# Altium footprint library TI Interface ESD EMI Protection.PcbLib: 54 footprints (part 4 of 4)
Each footprint in its own frame and in the unit in brackets; x right, y up, seen from the top. Pads: shape width x height; smd on the part's side, far side on the other; paste and mask are expansions set on the pad; w line width, h text height; cw(c..) or ccw(c..) is an arc to the next point about the centre after c.
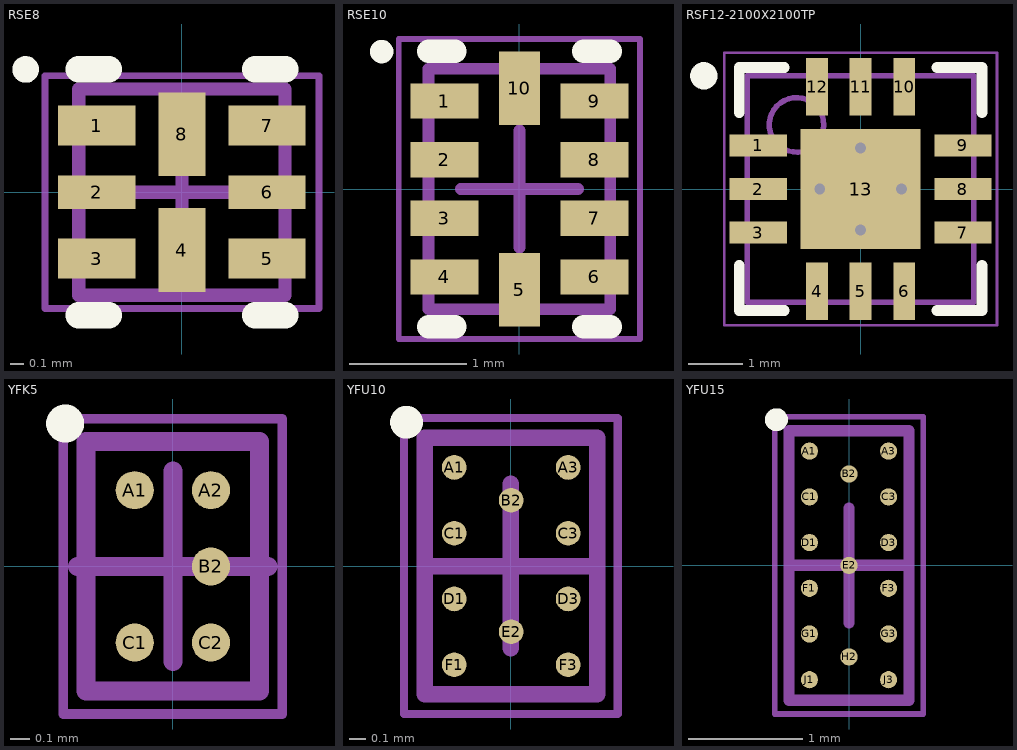
[diagram p3: the footprints below, top view; thin cyan lines are the x and y axes]

## RSE8 [mm] "QFN, 8-Leads, Body 1.5x1.5mm, Pitch 0.5mm, TI Recommended"
height 0.6
pads (8):
  rect 0.58x0.3 smd paste-0.025 mask+0.05: 1(-0.64,0.5) 3(-0.64,-0.5) 5(0.64,-0.5) 7(0.64,0.5)
  rect 0.58x0.25 smd paste-0.125 mask+0.05: 2(-0.64,0) 6(0.64,0)
  rect 0.35x0.63 smd paste-0.025 mask+0.05: 4(0,-0.435) 8(0,0.435)
Top Overlay:
  circle w0.1: c-1.175,0.923 r0.05
  lines w0.2: -0.775,-0.925 -0.55,-0.925 ; -0.775,0.925 -0.55,0.925 ; 0.55,-0.925 0.775,-0.925 ; 0.55,0.925 0.775,0.925
Top Paste:
  rectangle: 0.375,-0.125 0.905,0.125
  region: -0.375,0.125 -0.905,0.125 -0.905,-0.125 -0.375,-0.125
Mechanical 13:
  lines w0.1: -0.775,-0.775 0.775,-0.775 0.775,0.775 -0.775,0.775 -0.775,-0.775
Mechanical 15:
  lines w0.05: -1.03,-0.875 1.03,-0.875 1.03,0.875 -1.03,0.875 -1.03,-0.875
  lines w0.1: -0.5,0 0.5,0 ; 0,-0.5 0,0.5
3D body: height 0.6, standoff 0, extent -0.775,-0.775 0.775,0.775

## RSE10 [mm] "QFN, 10-Leads, Body 1.5x2mm, Pitch 0.5mm, TI Recommended"
height 0.6
pads (10):
  rect 0.58x0.3 smd paste-0.025 mask+0.05: 1(-0.64,0.75) 2(-0.64,0.25) 3(-0.64,-0.25) 4(-0.64,-0.75) 6(0.64,-0.75) 7(0.64,-0.25) 8(0.64,0.25) 9(0.64,0.75)
  rect 0.35x0.63 smd paste-0.025 mask+0.05: 5(0,-0.86) 10(0,0.86)
Top Overlay:
  circle w0.1: c-1.175,1.173 r0.05
  lines w0.2: -0.775,-1.175 -0.55,-1.175 ; -0.775,1.175 -0.55,1.175 ; 0.55,-1.175 0.775,-1.175 ; 0.55,1.175 0.775,1.175
Mechanical 13:
  lines w0.1: -0.775,-1.025 -0.775,1.025 0.775,1.025 0.775,-1.025 -0.775,-1.025
Mechanical 15:
  lines w0.05: -1.03,-1.28 -1.03,1.28 1.03,1.28 1.03,-1.28 -1.03,-1.28
  lines w0.1: -0.5,0 0.5,0 ; 0,-0.5 0,0.5
3D body: height 0.6, standoff 0, extent -0.775,-1.025 0.775,1.025

## RSF12-2100X2100TP [mm] "QFN, 12-Leads, Body 4x4mm, Pitch 0.8mm, Thermal Pad 2.2x2.2mm, TI Recommended"
height 0.8
pads (13):
  rect 1.05x0.4 smd paste-0.2 mask+0.05: 1(-1.875,0.8) 2(-1.875,0) 3(-1.875,-0.8) 7(1.875,-0.8) 8(1.875,0) 9(1.875,0.8)
  rect 0.4x1.05 smd paste-0.2 mask+0.05: 4(-0.8,-1.875) 5(0,-1.875) 6(0.8,-1.875) 10(0.8,1.875) 11(0,1.875) 12(-0.8,1.875)
  rect 2.2x2.2 smd paste-1.1 mask+0.05: 13(0,0)
via 0,-0.75 diameter 0.5 hole 0.2
via 0.75,0 diameter 0.5 hole 0.2
via 0,0.75 diameter 0.5 hole 0.2
via -0.75,0 diameter 0.5 hole 0.2
Top Overlay:
  circle w0.25: c-2.875,2.075 r0.125
  lines w0.2: -2.225,-1.4 -2.225,-2.225 -1.4,-2.225 ; -2.225,1.4 -2.225,2.225 -1.4,2.225 ; 1.4,-2.225 2.225,-2.225 2.225,-1.4 ; 1.4,2.225 2.225,2.225 2.225,1.4
Top Paste:
  rectangle: -1,-1 -0.1,-0.1
  region: 1,-0.1 0.1,-0.1 0.1,-1 1,-1
  region: 1,1 0.1,1 0.1,0.1 1,0.1
  rectangle: -1,0.1 -0.1,1
  rectangle: -2.35,-0.175 -1.4,0.175
  rectangle: -2.35,0.625 -1.4,0.975
  rectangle: -2.35,-0.975 -1.4,-0.625
  region: 0.975,-2.35 0.975,-1.4 0.625,-1.4 0.625,-2.35
  region: -0.625,-2.35 -0.625,-1.4 -0.975,-1.4 -0.975,-2.35
  region: 0.175,-2.35 0.175,-1.4 -0.175,-1.4 -0.175,-2.35
  region: 2.35,0.975 1.4,0.975 1.4,0.625 2.35,0.625
  region: 2.35,-0.625 1.4,-0.625 1.4,-0.975 2.35,-0.975
  region: 2.35,0.175 1.4,0.175 1.4,-0.175 2.35,-0.175
  region: -0.975,2.35 -0.975,1.4 -0.625,1.4 -0.625,2.35
  region: 0.625,2.35 0.625,1.4 0.975,1.4 0.975,2.35
  region: -0.175,2.35 -0.175,1.4 0.175,1.4 0.175,2.35
Mechanical 13:
  circle w0.1: c-1.175,1.175 r0.5
  lines w0.1: -2.075,-2.075 2.075,-2.075 2.075,2.075 -2.075,2.075 -2.075,-2.075
Mechanical 15:
  lines w0.05: -2.5,-2.5 2.5,-2.5 2.5,2.5 -2.5,2.5 -2.5,-2.5
  lines w0.1: -0.5,0 0.5,0 ; 0,-0.5 0,0.5
3D body: height 0.8, standoff 0, extent -2.075,-2.075 2.075,2.075

## YFK5 [mm] "BGA, 5-Leads, Body 1.31x0.91mm, Pitch 0.4mm"
height 0.63
pads (5):
  round 0.2 smd: A1(-0.2,0.4) A2(0.2,0.4) B2(0.2,0) C1(-0.2,-0.4) C2(0.2,-0.4)
Top Overlay:
  circle w0.1: c-0.565,0.75 r0.05
Mechanical 13:
  lines w0.1: -0.455,-0.655 -0.455,0.655 0.455,0.655 0.455,-0.655 -0.455,-0.655
Mechanical 15:
  lines w0.05: -0.575,-0.775 -0.575,0.775 0.575,0.775 0.575,-0.775 -0.575,-0.775
  lines w0.1: -0.5,0 0.5,0 ; 0,-0.5 0,0.5
3D body: height 0.63, standoff 0.12, extent -0.455,-0.655 0.455,0.655

## YFU10 [mm] "BGA, Staggered, 10-Leads, Body 1.56x1.05mm, Pitch 0.693/0.4 mm"
height 0.32
pads (10):
  round 0.15 smd: A1(-0.345,0.6) A3(0.348,0.6) B2(0.001,0.4) C1(-0.345,0.2) C3(0.348,0.2) D1(-0.345,-0.2) D3(0.348,-0.2) E2(0.001,-0.4) F1(-0.345,-0.6) F3(0.348,-0.6)
Top Overlay:
  circle w0.1: c-0.635,0.875 r0.05
Mechanical 13:
  lines w0.1: -0.525,-0.78 -0.525,0.78 0.525,0.78 0.525,-0.78 -0.525,-0.78
Mechanical 15:
  lines w0.05: -0.65,-0.9 -0.65,0.9 0.65,0.9 0.65,-0.9 -0.65,-0.9
  lines w0.1: -0.5,0 0.5,0 ; 0,-0.5 0,0.5
3D body: height 0.32, standoff 0.12, extent -0.525,-0.78 0.525,0.78

## YFU15 [mm] "BGA, Staggered, 15-Leads, Body 2.36x1.05mm, Pitch 0.693/0.4mm"
height 0.32
pads (15):
  round 0.15 smd: A1(-0.346,1) A3(0.346,1) B2(0,0.8) C1(-0.346,0.6) C3(0.346,0.6) D1(-0.346,0.2) D3(0.346,0.2) E2(0,0) F1(-0.346,-0.2) F3(0.346,-0.2) G1(-0.346,-0.6) G3(0.346,-0.6) H2(0,-0.8) J1(-0.346,-1) J3(0.346,-1)
Top Overlay:
  circle w0.1: c-0.635,1.275 r0.05
Mechanical 13:
  lines w0.1: -0.525,-1.18 0.525,-1.18 0.525,1.18 -0.525,1.18 -0.525,-1.18
Mechanical 15:
  lines w0.05: -0.65,-1.3 0.65,-1.3 0.65,1.3 -0.65,1.3 -0.65,-1.3
  lines w0.1: -0.5,0 0.5,0 ; 0,-0.5 0,0.5
3D body: height 0.32, standoff 0.12, extent -0.525,-1.18 0.525,1.18